# Altium integrated library Semiconductors_001.IntLib: 18 symbols
Pins are listed as number, name and electrical type; pins without a type are passive.

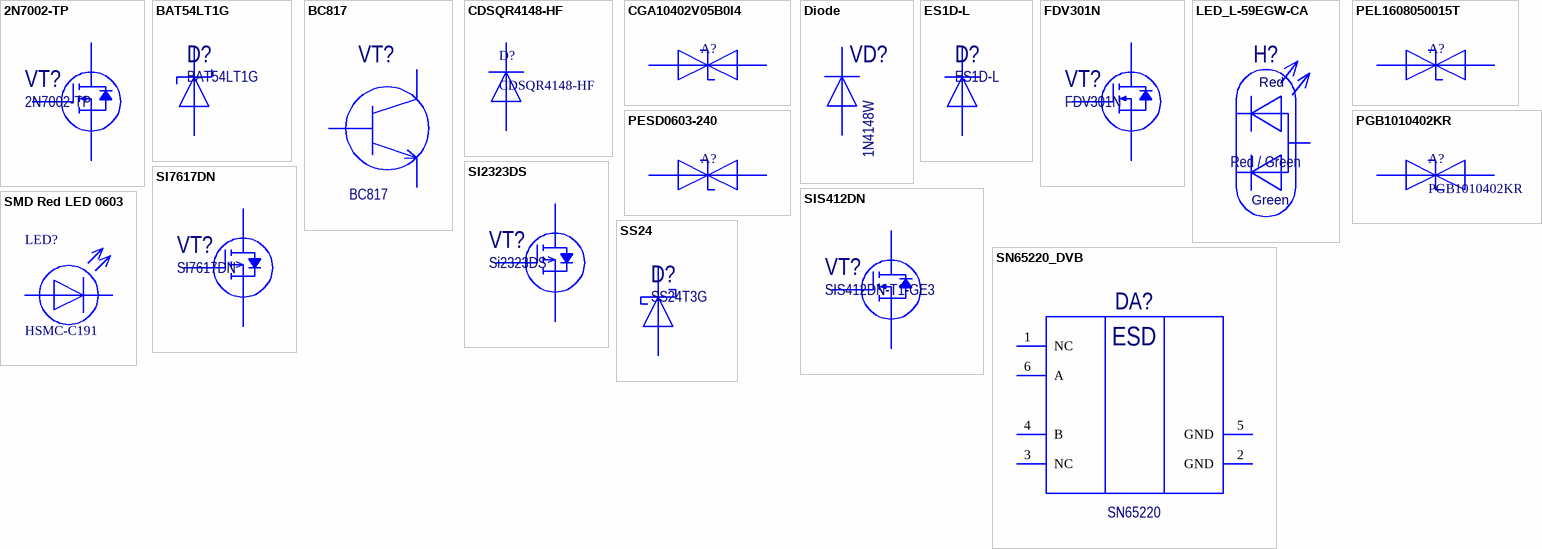
[diagram p0: symbols 2N7002-TP to SS24]

## 2N7002-TP
designator VT?
2N7002-TP - N-Channel 60-V (D-S) MOSFET; Manufacturer: MCC; ВП Описание: Транзистор_2N7002-TP; Наименование: Транзистор; Value: 2N7002-TP; Part Number: 2N7002-TP; ComponentLink1Description: DataSheet; ComponentLink1URL: https://www.vishay.com/docs/69006/sis412dn_new.pdf; Part: 2N7002-TP; Family: Transistors; ComponentLink2Description: Manufacturer; ComponentLink2URL: https://www.vishay.com/; ComponentLink3Description: DatasheetLocal; ComponentLink3URL: D:\Work\Altium_Library\NewArcomLibrary\Datasheets\Vishay\sis412dn_new.pdf; Manufacturer P/N: 2N7002-TP
footprint AO-SOT23-3_V (SOT23, 3-Leads, Body 3.016x2.8mm, Pitch 0.95mm)
pins: 1 G, 2 S, 3 D

## BAT54LT1G
designator D?
BAT54LT1G - 30 VOLTS SILICON HOT-CARRIER DETECTOR AND SWITCHING DIODES; Manufacturer: ON Semiconductor; ВП Описание: Диод_BAT54LT1G; Наименование: Диод; Value: BAT54LT1G; Part Number: BAT54LT1G; ComponentLink1Description: DataSheet; ComponentLink1URL: https://www.vishay.com/docs/69006/sis412dn_new.pdf; Part: BAT54LT1G; Family: Diode; ComponentLink2Description: Manufacturer; ComponentLink2URL: https://www.vishay.com/; ComponentLink3Description: DatasheetLocal; ComponentLink3URL: D:\Work\Altium_Library\NewArcomLibrary\Datasheets\Vishay\sis412dn_new.pdf; Manufacturer P/N: BAT54LT1G
footprint AO-SOT23-3_V (SOT23, 3-Leads, Body 3.016x2.8mm, Pitch 0.95mm)
pins: 1 A, 3 C

## BC817
designator VT?
BC817 - Transistor, NPN, 45V, 0.5 A; Vender: Fairchild Semiconductor; ВП Описание: Транзистор_BC817; Наименование: Транзистор; Value: BC817; Part Number: BC817; ComponentLink1Description: DataSheet; ComponentLink1URL: d:\Projects\Altium_Components_Lib\Component Data Base\Transistors\BC817.pdf; Manufacturer: Fairchild Semiconductor; StandartDoc: Fairchild Semiconductor; Manufacturer P/N: BC817; Part: BC817
footprint 3-SOT23 (SOT23, Body 3.05x3mm, Pitch 0.95mm)
pins: 1 B, 2 E, 3 C

## CDSQR4148-HF
designator D?
Switching Diode; Manufacturer: Comchip Technology CO., LTD.; ComponentLink1Description: Manufacturer; ComponentLink1URL: https://www.comchiptech.com/; ComponentLink2Description: Datasheet; ComponentLink2URL: https://www.comchiptech.com/admin/files/product/CDSQR4148-HF-RevC213424.pdf; Family: Transistors; Manufacturer P/N: CDSQR4148-HF; Part: CDSQR4148-HF
footprint SOD-923F
footprint SOD-923F - new
pins: 1 A, 2 K

## CGA10402V05B0I4
designator A?  (value not drawn)
Electrostatic discharge protection (ESD).; Manufacturer: Inpaq Technology Co., LTD.; Value: CGA10402V05B0I4; PartNumber: CGA10402V05B0I4; Vender: *; Manufacturer P/N: CGA10402V05B0I4; ProductCode: *; StandartDoc: *; ВП Описание: *; Наименование: *; Описание: *; Part: CGA10402V05B0I4; Family: *; ComponentLink1Description: Manufacturer; ComponentLink1URL: https://www.inpaqgp.com/; ComponentLink2Description: Datasheet; ComponentLink2URL: https://www.inpaqgp.com/product-co1.php?k=kA1OKN1jeP5Yf7r62HY%2Fcg%3D%3D#; ComponentLink3Description: DatasheetLocal; ComponentLink3URL: D:\Work\Altium_Library\NewArcomLibrary\Datasheets\InpaqTechnology\ESD Protector_CGA10402V05B0I4.pdf
footprint PESD0402(1005) (ESD Guard)
pins: 1 A, 2 K

## Diode
designator VD?, comment 1N4148W
1N4148W - Small Signal Fast Switching Diode; Vender: Vishay; ВП Описание: Диод_1N4148W; Наименование: Диод; Part Number: 1N4148W; Value: 1N4148W; ComponentLink1Description: DataSheet; ComponentLink1URL: d:\Projects\Altium_Components_Lib\Component Data Base\Diods\1n4148w.pdf; Manufacturer: Vishay; StandartDoc: Vishay; Manufacturer P/N: 1N4148W; Part: 1N4148W
footprint SOD123
pins: 1 A, 2 K

## ES1D-L
designator D?
ES1D-L - 1 Amp Super Fast Recovery Rectifier 50 to 600 Volts; Manufacturer: Micro Commercial Components; ВП Описание: Диод_ES1D-L; Наименование: Диод; Value: ES1D-L; Part Number: ES1D-L; ComponentLink1Description: DataSheet; ComponentLink1URL: https://www.mccsemi.com/pdf/products/ES1A-L-ES1J-L(SMA).pdf; Part: ES1D-L; Family: Diode; ComponentLink2Description: Manufacturer; ComponentLink2URL: https://www.mccsemi.com; ComponentLink3Description: DatasheetLocal; ComponentLink3URL: D:\Work\Altium_Library\NewArcomLibrary\Datasheets\; Manufacturer P/N: ES1D-L
footprint SMA(DO-214AC) (Molded, 2-Leads, Body 4.6x3.95mm)
pins: 1 C, 2 A

## FDV301N
designator VT?
FDV301N - N-Channel 25-V (D-S) MOSFET; Manufacturer: On Semiconductor; ВП Описание: Транзистор_FDV301N; Наименование: Транзистор; Value: FDV301N; Part Number: FDV301N; ComponentLink1Description: DataSheet; ComponentLink1URL: https://www.onsemi.com/download/data-sheet/pdf/fdv301n-d.pdf; Part: FDV301N; Family: Transistors; ComponentLink2Description: Manufacturer; ComponentLink2URL: https://www.onsemi.com/; ComponentLink3Description: DatasheetLocal; ComponentLink3URL: D:\Work\Altium_Library\NewArcomLibrary\Datasheets\ONSemiconductor\FDV301N-D.pdf; Manufacturer P/N: FDV301N
footprint AO-SOT23-3_V (SOT23, 3-Leads, Body 3.016x2.8mm, Pitch 0.95mm)
pins: 1 G, 2 S, 3 D

## LED_L-59EGW-CA
designator H?, comment Red / Green
LED_L-59EGW-CA - T-1 3/4 (5mm) BI-COLOR INDICATOR LAMP; Manufacturer: Kingbright; ВП Описание: Светодиод_L-59EGW-CA; Наименование: Светодиод; Value: Red / Green; Part Number: L-59EGW-CA; ComponentLink1Description: DataSheet; ComponentLink1URL: https://www.kingbright.ru/products/download/1063/1973/31; ComponentLink2Description: Manufacturer; ComponentLink2URL: https://www.kingbright.com/; ComponentLink3Description: DatasheetLocal; ComponentLink3URL: D:\Work\Altium_Library\NewArcomLibrary\Datasheets\Kingbright\l-59egw-ca.pdf; Manufacturer P/N: L-59EGW-CA; Part: L-59EGW-CA
footprint L-59EGW(Vertical) (Kingbright Led)
pins: 1, 2, 3
text: Red; Green

## PEL1608050015T
designator A?  (value not drawn)
Electrostatic discharge protection (ESD).; Manufacturer: NichTek; Value: PEL1608050015T; PartNumber: PEL1608050015T; Vender: *; Manufacturer P/N: PEL1608050015T; ProductCode: *; StandartDoc: *; ВП Описание: *; Наименование: *; Описание: *; Part: PEL1608050015T; Family: *; ComponentLink1Description: Manufacturer; ComponentLink1URL: http://www.nichtek.com/; ComponentLink2Description: Datasheet; ComponentLink3Description: DatasheetLocal; ComponentLink3URL: D:\Work\Altium_Library\NewArcomLibrary\Datasheets\
footprint PESD0402(1005) (ESD Guard)
pins: 1 A, 2 K

## PESD0603-240
designator A?  (value not drawn)
Manufacturer: TE CONNECTIVITY / RAYCHEM; Manufacturer P/N: PESD0603-240; Value: *; PartNumber: *; Vender: *; ProductCode: *; StandartDoc: *; ВП Описание: *; Наименование: *; Описание: *; Part: PESD0603-240; Family: *; ComponentLink1Description: Manufacturer; ComponentLink1URL: *; ComponentLink2Description: Datasheet; ComponentLink2URL: *; ComponentLink3Description: DatasheetLocal; ComponentLink3URL: *
footprint PESD0603(1608)_L (ESD Suppressor, Body 1.6x0.8mm, IPC High Density)
footprint PESD0603(1608)_M (ESD Suppressor, Body 1.6x0.8mm, IPC Low Density)
footprint PESD0603(1608)_N (ESD Suppressor, Body 1.6x0.8mm, IPC Medium Density)
pins: 1 A, 2 K

## PGB1010402KR
designator A?
Surface mount Polimeric ESD Suppressors; Manufacturer: LittelFuse; ComponentLink1Description: Manufacturer; ComponentLink1URL: http://www.littelfuse.com; ComponentLink2Description: Datasheet; ComponentLink2URL: http://www.littelfuse.com/data/en/data_sheets/littelfuse_pulseguard_esd_pgb1.pdf; Manufacturer P/N: PGB1010402KR; Part: PGB1010402KR; Family: Diodes&Transistors
footprint C0402_L (Chip Capacitor, Body 1.0x0.5mm, Height 0.6mm, IPC High Density)
footprint C0402_M (Chip Capacitor, Body 1.0x0.5mm, Height 0.6mm, IPC Low Density)
footprint C0402_N (Chip Capacitor, Body 1.0x0.5mm, Height 0.6mm, IPC Medium Density)
pins: 1 A, 2 K

## SI2323DS
designator VT?, comment Si2323DS
SIS412DN - P-Channel 20-V (D-S) MOSFET; Manufacturer: Vishay; ВП Описание: Транзистор_Si2323DS; Наименование: Транзистор; Value: Si2323DS; Part Number: Si2323DS; ComponentLink1Description: DataSheet; ComponentLink1URL: https://285624.selcdn.ru/syms1/iblock/442/44266314d2b9689687ff12c52b7b06b2/76a0957f34b4d67454f8a21a94a67f01.pdf; Part: Si2323DS; Family: Transistors; ComponentLink2Description: Manufacturer; ComponentLink2URL: https://www.vishay.com/; ComponentLink3Description: DatasheetLocal; ComponentLink3URL: D:\Work\Altium_Library\NewArcomLibrary\Datasheets\Vishay\Si2323DS.pdf; Manufacturer P/N: Si2323DS
footprint AO-SOT23-3_V (SOT23, 3-Leads, Body 3.016x2.8mm, Pitch 0.95mm)
pins: 1 G, 2 S, 3 D

## SI7617DN
designator VT?
SI7617DN - P-Channel 30-V (D-S) MOSFET; Manufacturer: Vishay; ВП Описание: Транзистор_SI7617DN; Наименование: Транзистор; Value: SI7617DN; Part Number: SI7617DN; ComponentLink1Description: DataSheet; ComponentLink1URL: https://www.vishay.com/docs/65164/si7617dn.pdf; Part: SI7617DN; Family: Transistors; ComponentLink2Description: Manufacturer; ComponentLink2URL: https://www.vishay.com/; ComponentLink3Description: DatasheetLocal; ComponentLink3URL: D:\Work\Altium_Library\NewArcomLibrary\Datasheets\Vishay\SI7617DN.pdf; Manufacturer P/N: SI7617DN
footprint PowerPAK (Power PAK, 1212-8)
pins: 1 G, 2 S, 3 D

## SIS412DN
designator VT?, comment SIS412DN-T1-GE3
SIS412DN - N-Channel 30-V (D-S) MOSFET; Manufacturer: Vishay; ВП Описание: Транзистор_SIS412DN-T1-GE3; Наименование: Транзистор; Value: SIS412DN-T1-GE3; Part Number: SIS412DN-T1-GE3; ComponentLink1Description: DataSheet; ComponentLink1URL: https://www.vishay.com/docs/69006/sis412dn_new.pdf; Part: SIS412DN-T1-GE3; Family: Transistors; ComponentLink2Description: Manufacturer; ComponentLink2URL: https://www.vishay.com/; ComponentLink3Description: DatasheetLocal; ComponentLink3URL: D:\Work\Altium_Library\NewArcomLibrary\Datasheets\Vishay\sis412dn_new.pdf; Manufacturer P/N: SIS412DN-T1-GE3
footprint PowerPAK (Power PAK, 1212-8)
pins: 1 G, 2 S, 3 D

## SMD Red LED 0603
designator LED?, comment HSMC-C191
SMD Red LED; Manufacturer: Avago Technologies; ComponentLink1Description: Manufacturer; ComponentLink1URL: http://www.avagotech.com; ComponentLink2Description: Datasheet; ComponentLink2URL: http://www.avagotech.com/docs/AV02-0112EN; Manufacturer P/N: HSMC-C191; Part: HSMC-C191
footprint KING-LED0603-25-ORANGE_V (LED, SMT, Body 1.6 x 0.8 mm, 0.25mm Thickness)
pins: 1 A, 2 K

## SN65220_DVB
designator DA?, comment SN65220
SN65220 - USB Port Transient Suppressors; Part Number: SN65220DBVx; Vender: Texas Instruments; ВП Описание: Микросхема_SN65220DBVx; Наименование: Микросхема; Value: SN65220; ComponentLink1Description: DataSheet; ComponentLink1URL: d:\Projects\Altium_Components_Lib\Component Data Base\ESD Protection\TI\SN65220.pdf; Manufacturer: Texas Instruments; StandartDoc: Texas Instruments; Manufacturer P/N: SN65220DBVx; Part: SN65220DBVx
footprint 6-SOT23 (SOT23, Body 3.05x3mm, Pitch 0.95mm)
pins: 1 NC, 2 GND, 3 NC, 4 B, 5 GND, 6 A
text: ESD

## SS24
designator D?, comment SS24T3G
SS24 - Schottky Power Rectifier; Manufacturer: ON Semiconductor; ВП Описание: Диод_SS24T3G; Наименование: Диод; Value: SS24T3G; Part Number: SS24T3G; ComponentLink1Description: DataSheet; ComponentLink1URL: https://www.onsemi.com/pub/Collateral/SS24-D.PDF; Part: SS24T3G; Family: Diode; ComponentLink2Description: Manufacturer; ComponentLink2URL: https://www.onsemi.com; ComponentLink3Description: DatasheetLocal; ComponentLink3URL: D:\Work\Altium_Library\NewArcomLibrary\Datasheets\ONSemiconductor\SS24-D.pdf; Manufacturer P/N: SS24T3G
footprint ONSC-SMB-2-403A-03_V (Molded, 2-Leads, Body 4.6x3.95mm)
pins: 1 C, 2 A